# Altium schematic symbol library Switches Tactile.SchLib: 2 symbols
Pins are listed as number, name and electrical type; pins without a type are passive.

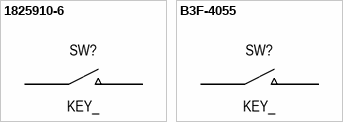
[diagram p0: symbols 1825910-6 to B3F-4055]

## 1825910-6
designator SW?, comment KEY_
Tact switch button 6x6x5; Manufacturer: TE Connectivity; Part name: 1825910-6; Component: Switches Tactile; Group: Mechanical; Package: TSW-6x6x5; Operating temperature: -35°C +85°C; Mounting type: Through hole; Dimension: 6.00mm x 6.00mm; Height: 5.00mm
footprint TSW-6x6x5N
pins: 1, 2

## B3F-4055
designator SW?, comment KEY_
Tact switch button 12x12x7.3; Manufacturer: Omron; Part name: B3F-4055; Component: Switches Tactile; Group: Mechanical; Package: TSW-12x12x7.3; Operating temperature: -25°C +70°C; Mounting type: Through hole; Dimension: 12.00mm x 12.00mm; Height: 7.30mm
footprint TSW-12x12x7.3N (Footprint not found)
pins: 1, 2